# Altium footprint library 47uH.PcbLib: 1 footprints
Each footprint in its own frame and in the unit in brackets; x right, y up, seen from the top. Pads: shape width x height; smd on the part's side, far side on the other; paste and mask are expansions set on the pad; w line width, h text height; cw(c..) or ccw(c..) is an arc to the next point about the centre after c.
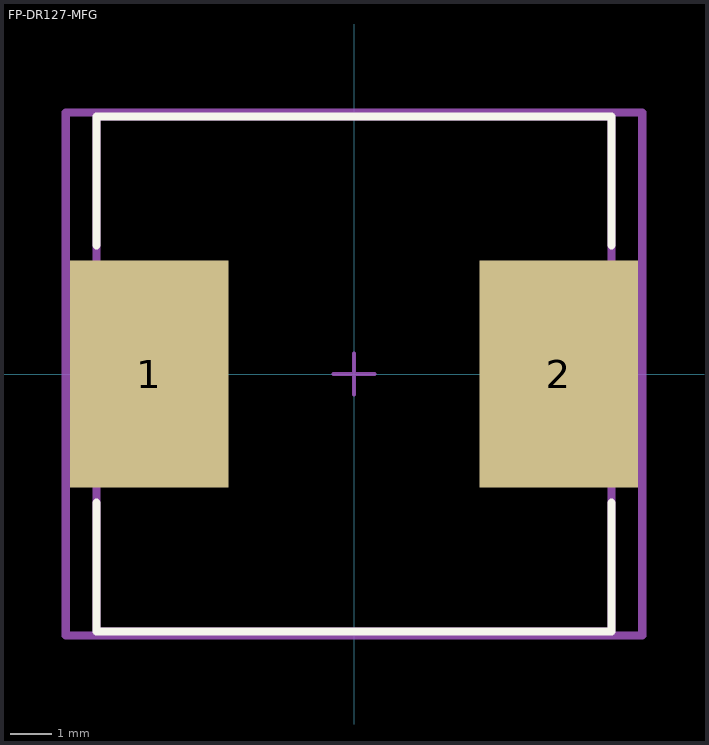
[diagram p0: the footprint, top view; thin cyan lines are the x and y axes]

## FP-DR127-MFG [mm]
pads (2):
  rect 3.85x5.5 smd paste+0 mask+0: 1(-4.975,0) 2(4.975,0)
Top Overlay:
  lines w0.2: -6.25,-3.125 -6.25,-6.25 6.25,-6.25 6.25,-3.125 ; -6.25,3.125 -6.25,6.25 6.25,6.25 6.25,3.125
Mechanical 5:
  lines w0.2: -7,-6.35 -7,6.35 7,6.35 7,-6.35 -7,-6.35
  text ".Designator" at 0,0.188 h1
Mechanical 13:
  lines w0.2: -6.25,-6.25 -6.25,6.25 6.25,6.25 6.25,-6.25 -6.25,-6.25
Mechanical 15:
  lines w0.2: -7,-6.35 -7,6.35 7,6.35 7,-6.35 -7,-6.35
Mechanical 16:
  lines w0.1: -0.5,0 0.5,0 ; 0,-0.5 0,0.5
3D body "Ind_Eaton_DR127-470-R_eec.STEP": height 0.25, standoff 0, extent -7,-6.35 7,6.35